# Altium footprint library Molex Footprints.PcbLib: 498 footprints (part 7 of 32)
Each footprint in its own frame and in the unit in brackets; x right, y up, seen from the top. Pads: shape width x height; smd on the part's side, far side on the other; paste and mask are expansions set on the pad; w line width, h text height; cw(c..) or ccw(c..) is an arc to the next point about the centre after c.
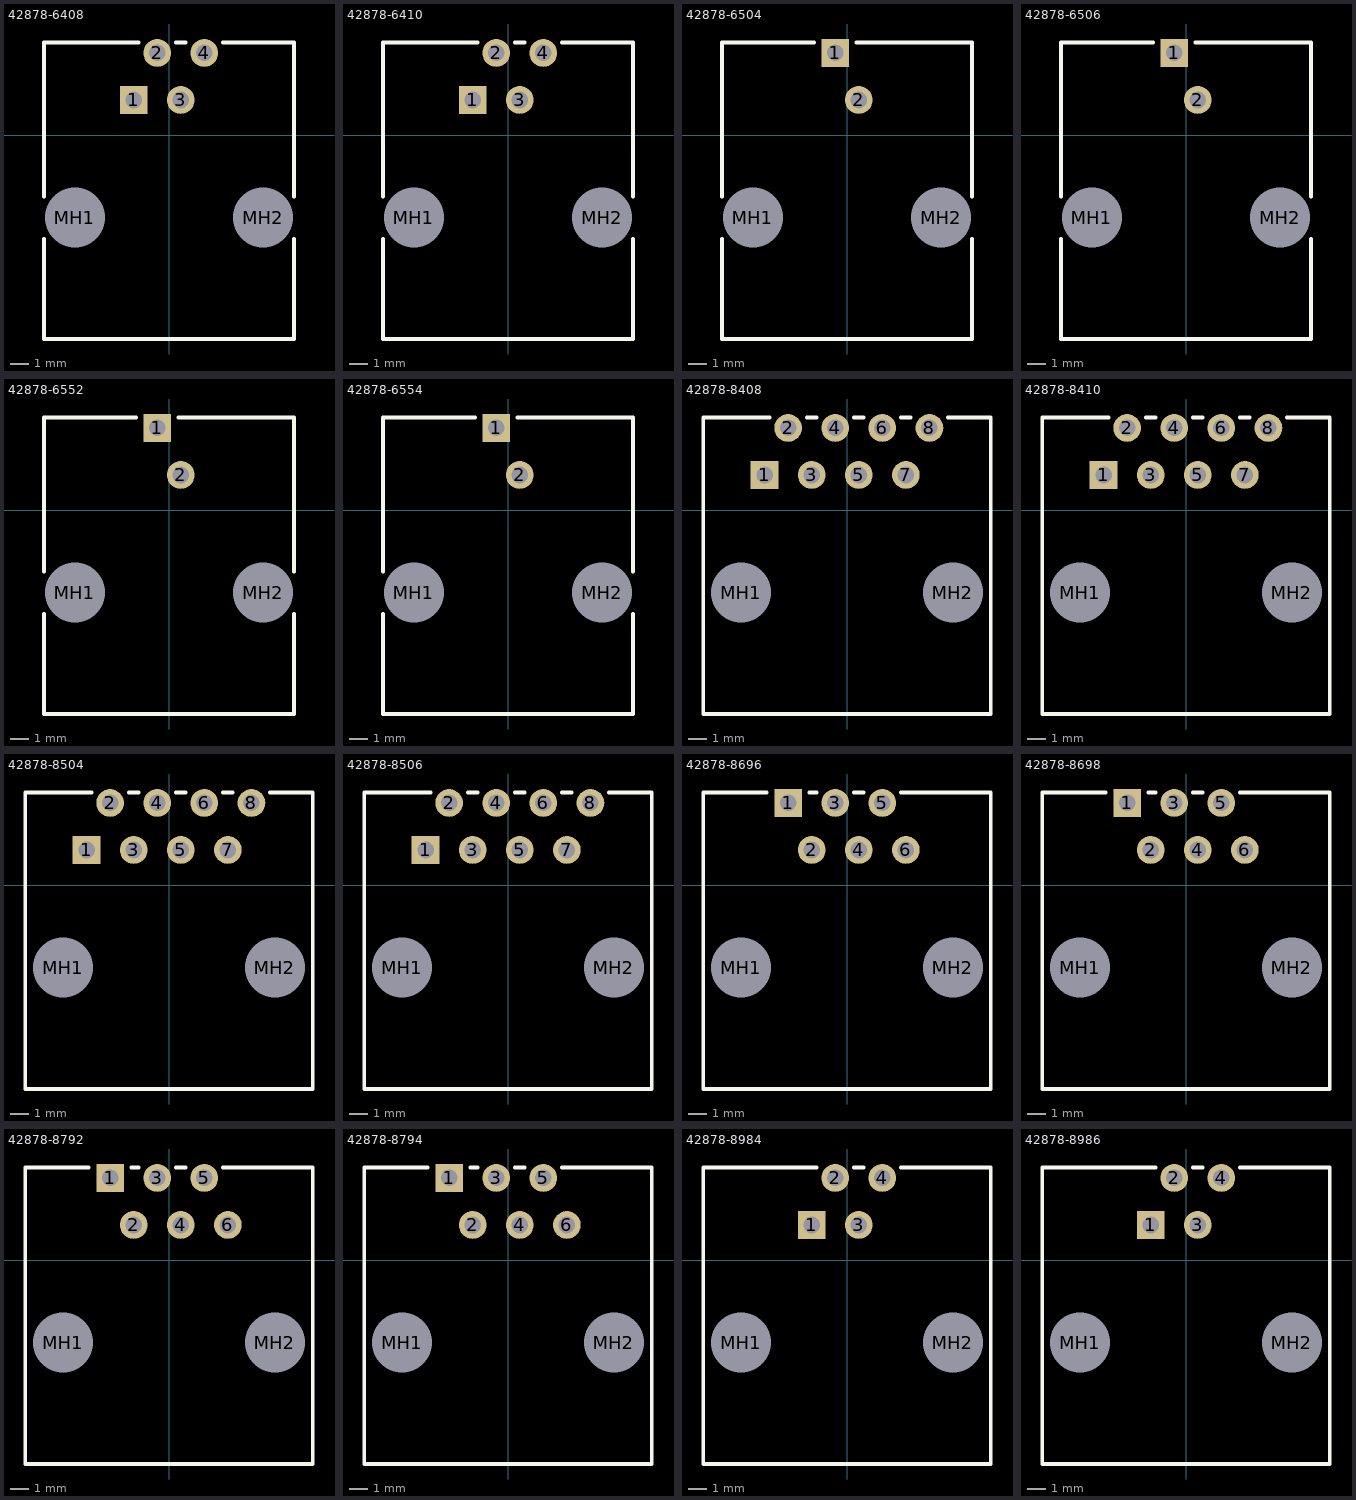
[diagram p6: the footprints below, top view; thin cyan lines are the x and y axes]

## 42878-6408 [mm] "Connector; PCB Jack, Thru-Hole; 1-Port, 6 Positions, 4 Loaded; Unshielded without Lightpipes; Vertical"
height 12.7
pads (6):
  rect 1.5x1.5 hole 0.9: 1(-1.905,1.905)
  round 1.5 hole 0.9: 2(-0.635,4.445) 3(0.635,1.905) 4(1.905,4.445)
  round 2.95 hole 3.25 unplated: MH1(-5.08,-4.445) MH2(5.08,-4.445)
Top Overlay:
  lines w0.2: -6.75,-5.59 -6.75,-10.995 6.75,-10.995 6.75,-5.59 ; -6.75,-3.3 -6.75,5.005 -1.639,5.005 ; 0.369,5.005 0.901,5.005 ; 2.909,5.005 6.75,5.005 6.75,-3.3

## 42878-6410 [mm] "Connector; PCB Jack, Thru-Hole; 1-Port, 6 Positions, 4 Loaded; Unshielded without Lightpipes; Vertical"
height 12.7
pads (6):
  rect 1.5x1.5 hole 0.9: 1(-1.905,1.905)
  round 1.5 hole 0.9: 2(-0.635,4.445) 3(0.635,1.905) 4(1.905,4.445)
  round 2.95 hole 3.25 unplated: MH1(-5.08,-4.445) MH2(5.08,-4.445)
Top Overlay:
  lines w0.2: -6.75,-5.59 -6.75,-10.995 6.75,-10.995 6.75,-5.59 ; -6.75,-3.3 -6.75,5.005 -1.639,5.005 ; 0.369,5.005 0.901,5.005 ; 2.909,5.005 6.75,5.005 6.75,-3.3

## 42878-6504 [mm] "Connector; PCB Jack, Thru-Hole; 1-Port, 6 Positions, 2 Loaded; Unshielded without Lightpipes; Vertical"
height 12.7
pads (4):
  rect 1.5x1.5 hole 0.9: 1(-0.635,4.445)
  round 1.5 hole 0.9: 2(0.635,1.905)
  round 2.95 hole 3.25 unplated: MH1(-5.08,-4.445) MH2(5.08,-4.445)
Top Overlay:
  lines w0.2: -6.75,-5.59 -6.75,-10.995 6.75,-10.995 6.75,-5.59 ; -6.75,-3.3 -6.75,5.005 -1.785,5.005 ; 0.515,5.005 6.75,5.005 6.75,-3.3

## 42878-6506 [mm] "Connector; PCB Jack, Thru-Hole; 1-Port, 6 Positions, 2 Loaded; Unshielded without Lightpipes; Vertical"
height 12.7
pads (4):
  rect 1.5x1.5 hole 0.9: 1(-0.635,4.445)
  round 1.5 hole 0.9: 2(0.635,1.905)
  round 2.95 hole 3.25 unplated: MH1(-5.08,-4.445) MH2(5.08,-4.445)
Top Overlay:
  lines w0.2: -6.75,-5.59 -6.75,-10.995 6.75,-10.995 6.75,-5.59 ; -6.75,-3.3 -6.75,5.005 -1.785,5.005 ; 0.515,5.005 6.75,5.005 6.75,-3.3

## 42878-6552 [mm] "Connector; PCB Jack, Thru-Hole; 1-Port, 6 Positions, 2 Loaded; Unshielded without Lightpipes; Vertical"
height 12.7
pads (4):
  rect 1.5x1.5 hole 0.9: 1(-0.635,4.445)
  round 1.5 hole 0.9: 2(0.635,1.905)
  round 2.95 hole 3.25 unplated: MH1(-5.08,-4.445) MH2(5.08,-4.445)
Top Overlay:
  lines w0.2: -6.75,-5.59 -6.75,-10.995 6.75,-10.995 6.75,-5.59 ; -6.75,-3.3 -6.75,5.005 -1.785,5.005 ; 0.515,5.005 6.75,5.005 6.75,-3.3

## 42878-6554 [mm] "Connector; PCB Jack, Thru-Hole; 1-Port, 6 Positions, 2 Loaded; Unshielded without Lightpipes; Vertical"
height 12.7
pads (4):
  rect 1.5x1.5 hole 0.9: 1(-0.635,4.445)
  round 1.5 hole 0.9: 2(0.635,1.905)
  round 2.95 hole 3.25 unplated: MH1(-5.08,-4.445) MH2(5.08,-4.445)
Top Overlay:
  lines w0.2: -6.75,-5.59 -6.75,-10.995 6.75,-10.995 6.75,-5.59 ; -6.75,-3.3 -6.75,5.005 -1.785,5.005 ; 0.515,5.005 6.75,5.005 6.75,-3.3

## 42878-8408 [mm] "Connector; PCB Jack, Thru-Hole; 1-Port, 8 Positions, 8 Loaded; Unshielded without Lightpipes; Vertical"
height 12.7
pads (10):
  rect 1.5x1.5 hole 0.9: 1(-4.445,1.905)
  round 1.5 hole 0.9: 2(-3.175,4.445) 3(-1.905,1.905) 4(-0.635,4.445) 5(0.635,1.905) 6(1.905,4.445) 7(3.175,1.905) 8(4.445,4.445)
  round 2.95 hole 3.25 unplated: MH1(-5.715,-4.445) MH2(5.715,-4.445)
Top Overlay:
  lines w0.2: -4.179,5.005 -7.75,5.005 -7.75,-10.995 7.75,-10.995 7.75,5.005 5.449,5.005 ; -2.171,5.005 -1.639,5.005 ; 0.369,5.005 0.901,5.005 ; 2.909,5.005 3.441,5.005

## 42878-8410 [mm] "Connector; PCB Jack, Thru-Hole; 1-Port, 8 Positions, 8 Loaded; Unshielded without Lightpipes; Vertical"
height 12.7
pads (10):
  rect 1.5x1.5 hole 0.9: 1(-4.445,1.905)
  round 1.5 hole 0.9: 2(-3.175,4.445) 3(-1.905,1.905) 4(-0.635,4.445) 5(0.635,1.905) 6(1.905,4.445) 7(3.175,1.905) 8(4.445,4.445)
  round 2.95 hole 3.25 unplated: MH1(-5.715,-4.445) MH2(5.715,-4.445)
Top Overlay:
  lines w0.2: -4.179,5.005 -7.75,5.005 -7.75,-10.995 7.75,-10.995 7.75,5.005 5.449,5.005 ; -2.171,5.005 -1.639,5.005 ; 0.369,5.005 0.901,5.005 ; 2.909,5.005 3.441,5.005

## 42878-8504 [mm] "Connector; PCB Jack, Thru-Hole; 1-Port, 8 Positions, 8 Loaded; Unshielded without Lightpipes; Vertical"
height 12.7
pads (10):
  rect 1.5x1.5 hole 0.9: 1(-4.445,1.905)
  round 1.5 hole 0.9: 2(-3.175,4.445) 3(-1.905,1.905) 4(-0.635,4.445) 5(0.635,1.905) 6(1.905,4.445) 7(3.175,1.905) 8(4.445,4.445)
  round 2.95 hole 3.25 unplated: MH1(-5.715,-4.445) MH2(5.715,-4.445)
Top Overlay:
  lines w0.2: -4.179,5.005 -7.75,5.005 -7.75,-10.995 7.75,-10.995 7.75,5.005 5.449,5.005 ; -2.171,5.005 -1.639,5.005 ; 0.369,5.005 0.901,5.005 ; 2.909,5.005 3.441,5.005

## 42878-8506 [mm] "Connector; PCB Jack, Thru-Hole; 1-Port, 8 Positions, 8 Loaded; Unshielded without Lightpipes; Vertical"
height 12.7
pads (10):
  rect 1.5x1.5 hole 0.9: 1(-4.445,1.905)
  round 1.5 hole 0.9: 2(-3.175,4.445) 3(-1.905,1.905) 4(-0.635,4.445) 5(0.635,1.905) 6(1.905,4.445) 7(3.175,1.905) 8(4.445,4.445)
  round 2.95 hole 3.25 unplated: MH1(-5.715,-4.445) MH2(5.715,-4.445)
Top Overlay:
  lines w0.2: -4.179,5.005 -7.75,5.005 -7.75,-10.995 7.75,-10.995 7.75,5.005 5.449,5.005 ; -2.171,5.005 -1.639,5.005 ; 0.369,5.005 0.901,5.005 ; 2.909,5.005 3.441,5.005

## 42878-8696 [mm] "Connector; PCB Jack, Thru-Hole; 1-Port, 8 Positions, 6 Loaded; Unshielded without Lightpipes; Vertical"
height 12.7
pads (8):
  rect 1.5x1.5 hole 0.9: 1(-3.175,4.445)
  round 1.5 hole 0.9: 2(-1.905,1.905) 3(-0.635,4.445) 4(0.635,1.905) 5(1.905,4.445) 6(3.175,1.905)
  round 2.95 hole 3.25 unplated: MH1(-5.715,-4.445) MH2(5.715,-4.445)
Top Overlay:
  lines w0.2: -4.325,5.005 -7.75,5.005 -7.75,-10.995 7.75,-10.995 7.75,5.005 2.909,5.005 ; -2.025,5.005 -1.639,5.005 ; 0.369,5.005 0.901,5.005

## 42878-8698 [mm] "Connector; PCB Jack, Thru-Hole; 1-Port, 8 Positions, 6 Loaded; Unshielded without Lightpipes; Vertical"
height 12.7
pads (8):
  rect 1.5x1.5 hole 0.9: 1(-3.175,4.445)
  round 1.5 hole 0.9: 2(-1.905,1.905) 3(-0.635,4.445) 4(0.635,1.905) 5(1.905,4.445) 6(3.175,1.905)
  round 2.95 hole 3.25 unplated: MH1(-5.715,-4.445) MH2(5.715,-4.445)
Top Overlay:
  lines w0.2: -4.325,5.005 -7.75,5.005 -7.75,-10.995 7.75,-10.995 7.75,5.005 2.909,5.005 ; -2.025,5.005 -1.639,5.005 ; 0.369,5.005 0.901,5.005

## 42878-8792 [mm] "Connector; PCB Jack, Thru-Hole; 1-Port, 8 Positions, 6 Loaded; Unshielded without Lightpipes; Vertical"
height 12.7
pads (8):
  rect 1.5x1.5 hole 0.9: 1(-3.175,4.445)
  round 1.5 hole 0.9: 2(-1.905,1.905) 3(-0.635,4.445) 4(0.635,1.905) 5(1.905,4.445) 6(3.175,1.905)
  round 2.95 hole 3.25 unplated: MH1(-5.715,-4.445) MH2(5.715,-4.445)
Top Overlay:
  lines w0.2: -4.325,5.005 -7.75,5.005 -7.75,-10.995 7.75,-10.995 7.75,5.005 2.909,5.005 ; -2.025,5.005 -1.639,5.005 ; 0.369,5.005 0.901,5.005

## 42878-8794 [mm] "Connector; PCB Jack, Thru-Hole; 1-Port, 8 Positions, 6 Loaded; Unshielded without Lightpipes; Vertical"
height 12.7
pads (8):
  rect 1.5x1.5 hole 0.9: 1(-3.175,4.445)
  round 1.5 hole 0.9: 2(-1.905,1.905) 3(-0.635,4.445) 4(0.635,1.905) 5(1.905,4.445) 6(3.175,1.905)
  round 2.95 hole 3.25 unplated: MH1(-5.715,-4.445) MH2(5.715,-4.445)
Top Overlay:
  lines w0.2: -4.325,5.005 -7.75,5.005 -7.75,-10.995 7.75,-10.995 7.75,5.005 2.909,5.005 ; -2.025,5.005 -1.639,5.005 ; 0.369,5.005 0.901,5.005

## 42878-8984 [mm] "Connector; PCB Jack, Thru-Hole; 1-Port, 8 Positions, 4 Loaded; Unshielded without Lightpipes; Vertical"
height 12.7
pads (6):
  rect 1.5x1.5 hole 0.9: 1(-1.905,1.905)
  round 1.5 hole 0.9: 2(-0.635,4.445) 3(0.635,1.905) 4(1.905,4.445)
  round 2.95 hole 3.25 unplated: MH1(-5.715,-4.445) MH2(5.715,-4.445)
Top Overlay:
  lines w0.2: -1.639,5.005 -7.75,5.005 -7.75,-10.995 7.75,-10.995 7.75,5.005 2.909,5.005 ; 0.369,5.005 0.901,5.005

## 42878-8986 [mm] "Connector; PCB Jack, Thru-Hole; 1-Port, 8 Positions, 4 Loaded; Unshielded without Lightpipes; Vertical"
height 12.7
pads (6):
  rect 1.5x1.5 hole 0.9: 1(-1.905,1.905)
  round 1.5 hole 0.9: 2(-0.635,4.445) 3(0.635,1.905) 4(1.905,4.445)
  round 2.95 hole 3.25 unplated: MH1(-5.715,-4.445) MH2(5.715,-4.445)
Top Overlay:
  lines w0.2: -1.639,5.005 -7.75,5.005 -7.75,-10.995 7.75,-10.995 7.75,5.005 2.909,5.005 ; 0.369,5.005 0.901,5.005